# Altium footprint library RPE_PCB_Library.PcbLib: 28 footprints (part 1 of 2)
Each footprint in its own frame and in the unit in brackets; x right, y up, seen from the top. Pads: shape width x height; smd on the part's side, far side on the other; paste and mask are expansions set on the pad; w line width, h text height; cw(c..) or ccw(c..) is an arc to the next point about the centre after c.
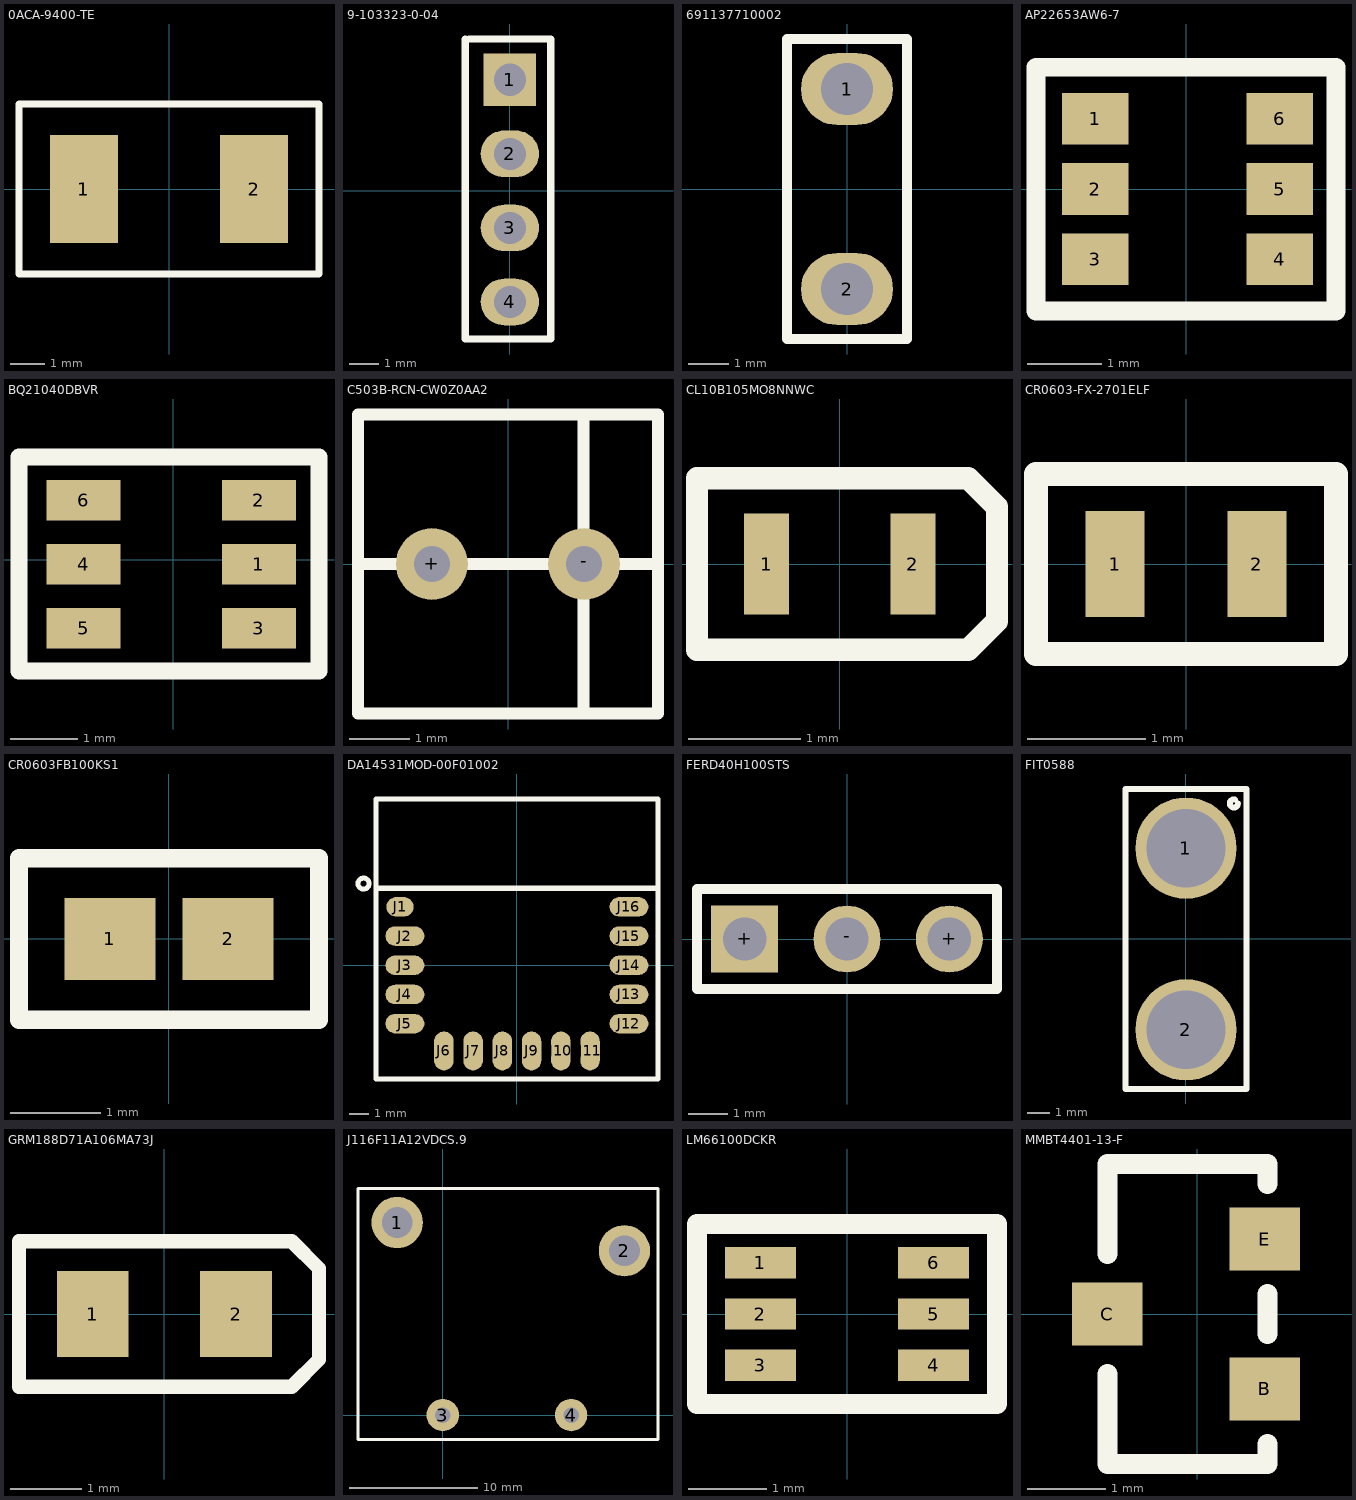
[diagram p0: the footprints below, top view; thin cyan lines are the x and y axes]

## 0ACA-9400-TE [mm] "FUSE BOARD MOUNT 40A 63VDC 2SMD"
height 2.57
pads (2):
  rect 2x3.18 smd: 1(-2.5,0) 2(2.5,0)
Top Overlay:
  lines w0.2: -4.41,-2.5 -4.41,0 -4.41,2.5 4.41,2.5 4.41,-2.5 -4.41,-2.5

## 9-103323-0-04 [mm] "CONN HEADER R/A 4POS 2.54MM"
height 3.5
pads (4):
  rect 1.8x1.8 hole 1.1: 1(0,3.81)
  oval 2x1.6 hole 1.1: 2(0,1.27) 3(0,-1.27) 4(0,-3.81)
Top Overlay:
  lines w0.254: -1.524,5.207 -1.524,-5.08 1.397,-5.08 1.397,5.207 -1.397,5.207

## 691137710002 [mm] "TERM BLK 2POS SIDE ENTRY 5MM PCB"
height 11.6
pads (2):
  oval 2.3x1.8 hole 1.3: 1(0,2.5) 2(0,-2.5)
Top Overlay:
  lines w0.254: -1.5,-3.75 -1.5,3.75 1.5,3.75 1.5,-3.75 -1.5,-3.75

## AP22653AW6-7 [mm] "LOAD SWITCH,SOT26,T&R,3K"
height 1.45
pads (6):
  rect 0.9x0.7 smd mask+0: 1(-1.23,0.95) 2(-1.23,0) 3(-1.23,-0.95) 4(1.27,-0.95) 5(1.27,0) 6(1.27,0.95)
Top Overlay:
  lines w0.254: -2.032,-1.651 -2.032,1.651 2.032,1.651 2.032,-1.651 -2.032,-1.651

## BQ21040DBVR [mm] "IC BATT CHG LI-ION 1CELL SOT23-6"
height 1.45
pads (6):
  rect 1.1x0.6 smd: 1(1.27,-0.066) 2(1.27,0.884) 3(1.27,-1.016) 4(-1.33,-0.066) 5(-1.33,-1.016) 6(-1.33,0.884)
Top Overlay:
  lines w0.254: -2.286,-1.651 2.159,-1.651 2.159,1.524 -2.286,1.524 -2.286,-1.651

## C503B-RCN-CW0Z0AA2 [mm] "LED RED CLEAR 5MM ROUND T/H"
height 8.6
pads (2):
  round 1.2 hole 0.6: +(-1.27,0) -(1.27,0)
Top Overlay:
  lines w0.2: -2.505,0 0.07,0 ; -0.07,0 2.505,0 ; 1.258,-2.5 1.258,2.5 ; 2.505,0 2.505,-2.5 -2.505,-2.5 -2.505,2.5 2.505,2.5 2.505,0

## CL10B105MO8NNWC [mm] "CAP CER 1UF 16V X7R 0603"
height 0.8
pads (2):
  rect 0.4x0.9 smd: 1(-0.65,0) 2(0.65,0)
Top Overlay:
  lines w0.2: -1.27,-0.762 1.143,-0.762 1.397,-0.508 1.397,0.508 1.143,0.762 -1.27,0.762 -1.27,0.106 -1.27,-0.762

## CR0603-FX-2701ELF [mm] "RES SMD 2.7K OHM 1% 1/10W 0603"
height 0.55
pads (2):
  rect 0.5x0.9 smd: 1(-0.6,0) 2(0.6,0)
Top Overlay:
  lines w0.2: -1.27,-0.762 1.27,-0.762 1.27,0.762 -1.27,0.762 -1.27,0.106 -1.27,-0.762

## CR0603FB100KS1 [mm] "RES,SMD,0603,1%,100K,1/10W"
height 0.6
pads (2):
  rect 1x0.9 smd mask+0: 1(-0.65,0) 2(0.65,0)
Top Overlay:
  lines w0.2: -1.651,-0.889 -1.651,0.889 1.651,0.889 1.651,-0.889 -1.651,-0.889

## DA14531MOD-00F01002 [mm] "RF TXRX MODULE BT TRACE ANT SMD"
height 0.9
pads (16):
  oval 1.4x1 smd: J1(-6,3)
  oval 2x1 smd: J2(-5.75,1.5) J3(-5.75,0) J4(-5.75,-1.5) J5(-5.75,-3) J12(5.75,-3) J13(5.75,-1.5) J14(5.75,0) J15(5.75,1.5) J16(5.75,3)
  oval 1x2 smd: J6(-3.75,-4.4) J7(-2.25,-4.4) J8(-0.75,-4.4) J9(0.75,-4.4) J10(2.25,-4.4) J11(3.75,-4.4)
Top Overlay:
  circle w0.254: c-7.874,4.191 r0.284
  lines w0.254: -7.239,-5.842 7.239,-5.842 7.239,3.958 -7.239,3.958 -7.239,-5.842 ; -7.239,3.937 7.239,3.937 7.239,8.537 -7.239,8.537 -7.239,3.937

## FERD40H100STS [mm] "DIODE FERD 100V 40A TO220AB"
height 15.75
pads (3):
  rect 1.7x1.7 hole 1.1: +(-2.6,0)
  round 1.7 hole 1.1: +(2.6,0) -(0,0)
Top Overlay:
  lines w0.254: -3.81,-1.27 -3.81,1.27 3.81,1.27 3.81,-1.27 -3.81,-1.27

## FIT0588 [mm] "HIGH QUALITY GOLD PLATED XT90 MA Bullet Connector"
height 0.4
pads (2):
  round 4.46 hole 3.46: 1(0,4) 2(0,-4)
Top Overlay:
  lines w0.254: 2.173,6.136 ccw(c2.106,5.969) 2.286,5.969 ; -2.667,-6.604 2.667,-6.604 2.667,6.604 -2.667,6.604 -2.667,-6.604

## GRM188D71A106MA73J [mm] "CAP CER 10UF 10V X7T 0603"
height 1
pads (2):
  rect 1x1.2 smd: 1(-1,0) 2(1,0)
Top Overlay:
  lines w0.2: -2.032,-1.016 -2.032,-0.098 -2.032,1.016 1.778,1.016 2.159,0.635 2.159,-0.635 1.778,-1.016 -2.032,-1.016

## J116F11A12VDCS.9 [mm] "RELAY GEN PURPOSE SPST 50A 12V"
height 15.4
pads (4):
  round 4 hole 2.4: 1(-3.55,15) 2(14.15,12.8)
  round 2.524 hole 1.2: 3(0,0) 4(10,0)
Top Overlay:
  lines w0.254: -6.604,-1.905 16.764,-1.905 16.764,17.653 -6.604,17.653 -6.604,-1.905

## LM66100DCKR [mm] "IC OR CTRLR IDEAL DIODE SC70-6"
height 1.1
pads (6):
  rect 0.9x0.4 smd mask+0: 1(-1.1,0.65) 2(-1.1,0) 3(-1.1,-0.65) 4(1.1,-0.65) 5(1.1,0) 6(1.1,0.65)
Top Overlay:
  lines w0.254: -1.905,-1.143 -1.905,1.143 1.905,1.143 1.905,-1.143 -1.905,-1.143

## MMBT4401-13-F [mm] "TRANS NPN 40V 0.6A SOT23-3"
height 1.1
pads (3):
  rect 0.9x0.8 smd: B(0.857,-0.95) C(-1.143,0) E(0.857,0.95)
Top Overlay:
  lines w0.254: -1.143,-0.762 -1.143,-1.905 0.889,-1.905 0.889,-1.651 ; -1.143,0.762 -1.143,1.905 0.889,1.905 0.889,1.651 ; 0.889,-0.254 0.889,0.254